# Altium integrated library mylib.IntLib: 29 symbols
Pins are listed as number, name and electrical type; pins without a type are passive.

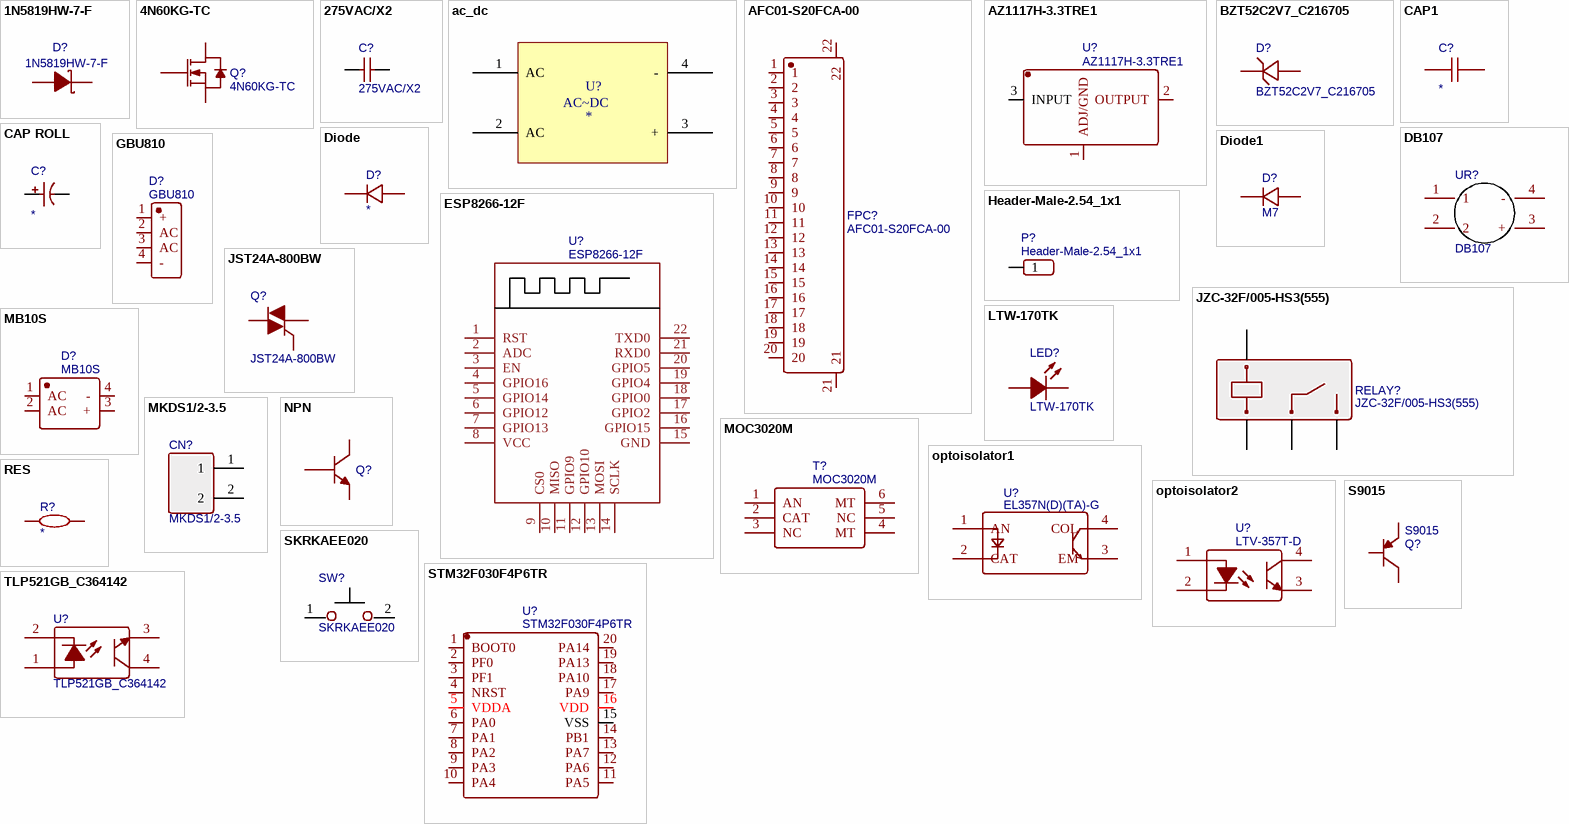
[diagram p0: symbols 1N5819HW-7-F to TLP521GB_C364142]

## 1N5819HW-7-F
designator D?
BOM_Manufacturer: DIODES; BOM_Supplier: LCSC; BOM_Manufacturer Part: 1N5819HW-7-F; image: //image.lceda.cn/szlcsc/C82544.jpg; BOM_Supplier Part: C82544; spicePre: D
footprint SOD-123
footprint SMB(DO-214AA)
pins: 1 A, 2 K

## 4N60KG-TC
designator Q?
BOM_Manufacturer: Unisonic Tech; Contributor: LCSC; BOM_Supplier: LCSC; BOM_Supplier Part: C340688; BOM_Manufacturer Part: 4N60KG-TC; spicePre: Q
footprint TO-220F
pins: 1 G, 2 D, 3 S

## 275VAC/X2
designator C?
BOM_Manufacturer: ReliaPro; BOM_Manufacturer Part: 275VAC/X2 0.15UF; nameAlias: Value; BOM_Supplier: LCSC; BOM_Supplier Part: C32415; spicePre: C; spiceSymbolName: 275VAC/X2 0.15UF
footprint CAP-18*5-15MM
pins: 1, 2

## ac_dc
designator U?
footprint RPD3W1
footprint RPD5W1
footprint RPD10W1
pins: 1 AC, 2 AC, 3 +, 4 -
text: AC~DC

## AFC01-S20FCA-00
designator FPC?
BOM_Manufacturer: JUSHUO; Contributor: LCSC; BOM_Supplier: LCSC; BOM_Supplier Part: C262667; BOM_Manufacturer Part: AFC01-S20FCA-00; spicePre: F
footprint FPC-0.5MM-20P-FGS-XJ-H2.0
pins: 1, 2, 3, 4, 5, 6, 7, 8, 9, 10, 11, 12, 13, 14, 15, 16, 17, 18, 19, 20, 21, 22

## AZ1117H-3.3TRE1
designator U?
BOM_Manufacturer: DIODES; Contributor: lijinqiu1; BOM_Supplier: LCSC; BOM_Manufacturer Part: AZ1117H-3.3TRE1; BOM_Supplier Part: C92517; spicePre: U
footprint SOT-223
pins: 1 ADJ/GND, 2 OUTPUT, 3 INPUT

## BZT52C2V7_C216705
designator D?
BOM_Manufacturer: SK; Contributor: LCSC; BOM_Supplier: LCSC; BOM_Supplier Part: C216705; BOM_Manufacturer Part: BZT52C2V7; spicePre: D
footprint DIODE_SOD-123FL
pins: 1, 2

## CAP1
designator C?
BOM_Manufacturer: Samsung Electro-Mechanics; BOM_Manufacturer Part: CL21X106KOQNNNE; nameAlias: Capacitance; Contributor: LCSC; BOM_Supplier: LCSC; BOM_Supplier Part: C307561; spicePre: C; spiceSymbolName: CL21X106KOQNNNE
footprint 0805
footprint CAP-SAFE-13.0*6.0
footprint 0603
pins: 1, 2

## CAP ROLL
designator C?
BOM_Manufacturer: ValuePro; BOM_Manufacturer Part: 47uF 35V; nameAlias: Capacitance; BOM_Supplier: LCSC; BOM_Supplier Part: C13654; spicePre: C; spiceSymbolName: 47uF 35V
footprint CAP-D6.3XF2.5
pins: 1, 2

## DB107
designator UR?
BOM_Manufacturer: MDD; BOM_Supplier: LCSC; BOM_Manufacturer Part: DB107; image: //image.lceda.cn/szlcsc/C2492.jpg; BOM_Supplier Part: C2492; spicePre: U
footprint DB107
pins: 1, 2, 3 +, 4 -

## Diode
designator D?
BOM_Manufacturer: ReliaPro; BOM_Manufacturer Part: 1N4007W; Contributor: LCSC; BOM_Supplier Part: C36578; BOM_Supplier: LCSC; spicePre: D
footprint SOD-123FL
pins: 1 C, 2 A

## Diode1
designator D?, comment M7
BOM_Manufacturer: Shandong Jingdao Microelectronics; Contributor: LCSC; SMT Type: Extend; BOM_Supplier: LCSC; BOM_Supplier Part: C115218; BOM_Manufacturer Part: -; BOM_LCSC Assembly: Yes; spicePre: D
footprint SMA(DO-214AC)-F
pins: 1 C, 2 A

## ESP8266-12F
designator U?
BOM_Manufacturer Part: ESP8266-12F/ESP-12F; catid: 20; sourceId: K4gQpZzx7; timeStamp: 1472009093; spicePre: U
footprint LGA22-2.0-24X16MM
pins: 1 RST, 2 ADC, 3 EN, 4 GPIO16, 5 GPIO14, 6 GPIO12, 7 GPIO13, 8 VCC, 9 CS0, 10 MISO, 11 GPIO9, 12 GPIO10, 13 MOSI, 14 SCLK, 15 GND, 16 GPIO15, 17 GPIO2, 18 GPIO0, 19 GPIO4, 20 GPIO5, 21 RXD0, 22 TXD0

## GBU810
designator D?
BOM_Manufacturer: MDD; BOM_Supplier: LCSC; BOM_Manufacturer Part: GBU810; BOM_Supplier Part: C113930; spicePre: D
footprint DIODE-BRIDGE_GBU810
pins: 1 +, 2 AC, 3 AC, 4 -

## Header-Male-2.54_1x1
designator P?
BOM_Manufacturer: ReliaPro; BOM_Supplier: LCSC; BOM_Manufacturer Part: Header-Male-2.54_1x1; BOM_Supplier Part: C81276; spicePre: P
footprint HDR-1X1/2.54
pins: 1

## JST24A-800BW
designator Q?
BOM_Manufacturer: JJ; Contributor: LCSC; BOM_Supplier: LCSC; BOM_Manufacturer Part: JST24A-800BW; BOM_Supplier Part: C167649; spicePre: Q
footprint TO-220(TO-220-3)
pins: 1 MT1, 2 MT2, 3 G

## JZC-32F/005-HS3(555)
designator RELAY?
BOM_Manufacturer: HF; BOM_Supplier: LCSC; BOM_Manufacturer Part: JZC-32F/005-HS3(555); image: //image.lceda.cn/szlcsc/C9222.jpg; BOM_Supplier Part: C9222; spicePre: R
footprint RELAY-HF_34
pins: 1, 2, 3, 4

## LTW-170TK
designator LED?
BOM_Manufacturer: Lite-On; Contributor: LCSC; BOM_Supplier: LCSC; BOM_Supplier Part: C125122; BOM_Manufacturer Part: LTW-170TK; spicePre: L
footprint LED_0805
pins: 1 A, 2 K

## MB10S
designator D?
BOM_Manufacturer: Hottech; Contributor: LCSC; BOM_Supplier: LCSC; BOM_Manufacturer Part: MB10S; BOM_Supplier Part: C181215; spicePre: D
footprint MBS
pins: 1 AC, 2 AC, 3 +, 4 -

## MKDS1/2-3.5
designator CN?
BOM_Manufacturer: Phoenix Contact; BOM_Supplier: LCSC; BOM_Manufacturer Part: MKDS1/2-3.5; BOM_Supplier Part: C89122; spicePre: C
footprint MKDS1/2-3.5
pins: 1, 2

## MOC3020M
designator T?
BOM_Manufacturer: FAIRCHILD; BOM_Supplier: LCSC; BOM_Manufacturer Part: MOC3020M; BOM_Supplier Part: C86911; spicePre: T
footprint DIP-6
pins: 1 AN, 2 CAT, 3 NC, 4 MT, 5 NC, 6 MT

## NPN
designator Q?
BOM_Manufacturer: Yenji; BOM_Manufacturer Part: SS8050; Contributor: LCSC; BOM_Supplier: LCSC; BOM_Supplier Part: C139513; spicePre: Q
footprint SOT-23(SOT-23-3)
pins: 1 B, 2 E, 3 C

## optoisolator1
designator U?, comment EL357N(D)(TA)-G
BOM_Manufacturer: EVERLIGHT; Contributor: LCSC; SMT Type: Extend; BOM_Supplier: LCSC; BOM_Manufacturer Part: EL357N(D)(TA)-G; BOM_Supplier Part: C142283; BOM_LCSC Assembly: Yes; spicePre: U
footprint SOP-4_P2.54
pins: 1 AN, 2 CAT, 3 EM, 4 COL

## optoisolator2
designator U?, comment LTV-357T-D
BOM_Manufacturer: Lite-On; Contributor: LCSC; SMT Type: Extend; BOM_Supplier: LCSC; BOM_Supplier Part: C123197; BOM_Manufacturer Part: LTV-357T-D; BOM_LCSC Assembly: Yes; spicePre: U
footprint SOP-4_P2.54
pins: 1, 2, 3, 4

## RES
designator R?
BOM_Manufacturer: TA-I Tech; BOM_Manufacturer Part: RMS10JT105; nameAlias: Resistance (Ohms); Contributor: LCSC; BOM_Supplier: LCSC; BOM_Supplier Part: C212440; spicePre: R; spiceSymbolName: RMS10JT105
footprint 0805
footprint 0603
pins: 1, 2

## S9015
designator Q?
BOM_Manufacturer: SK; SMT Type: Extend; BOM_Supplier: LCSC; BOM_Manufacturer Part: S9015; BOM_Supplier Part: C114997; BOM_LCSC Assembly: Yes; spicePre: Q
footprint SOT-23(SOT-23-3)
pins: 1 B, 2 E, 3 C

## SKRKAEE020
designator SW?
BOM_Manufacturer: ALPS; BOM_Supplier: LCSC; BOM_Manufacturer Part: SKRKAEE020; BOM_Supplier Part: C115357; spicePre: S
footprint SKRKAEE020
pins: 1, 2

## STM32F030F4P6TR
designator U?
BOM_Manufacturer: STMicroelectronics; Contributor: LCSC; SMT Type: Extend; BOM_Supplier: LCSC; BOM_Supplier Part: C89040; BOM_Manufacturer Part: STM32F030F4P6TR; BOM_LCSC Assembly: Yes; spicePre: U
footprint TSSOP-20
pins: 1 BOOT0, 2 PF0, 3 PF1, 4 NRST, 5 VDDA, 6 PA0, 7 PA1, 8 PA2, 9 PA3, 10 PA4, 11 PA5, 12 PA6, 13 PA7, 14 PB1, 15 VSS, 16 VDD, 17 PA9, 18 PA10, 19 PA13, 20 PA14

## TLP521GB_C364142
designator U?
BOM_Manufacturer: Youtai Semiconductor Co., Ltd.; Contributor: LCSC; BOM_Supplier: LCSC; BOM_Supplier Part: C364142; BOM_Manufacturer Part: TLP521GB; spicePre: U
footprint DIP-4
pins: 1, 2, 3, 4